# Altium schematic symbol library PCB_Eng_Model_OBDH_2.SCHLIB: 62 symbols
Pins are listed as number, name and electrical type; pins without a type are passive.

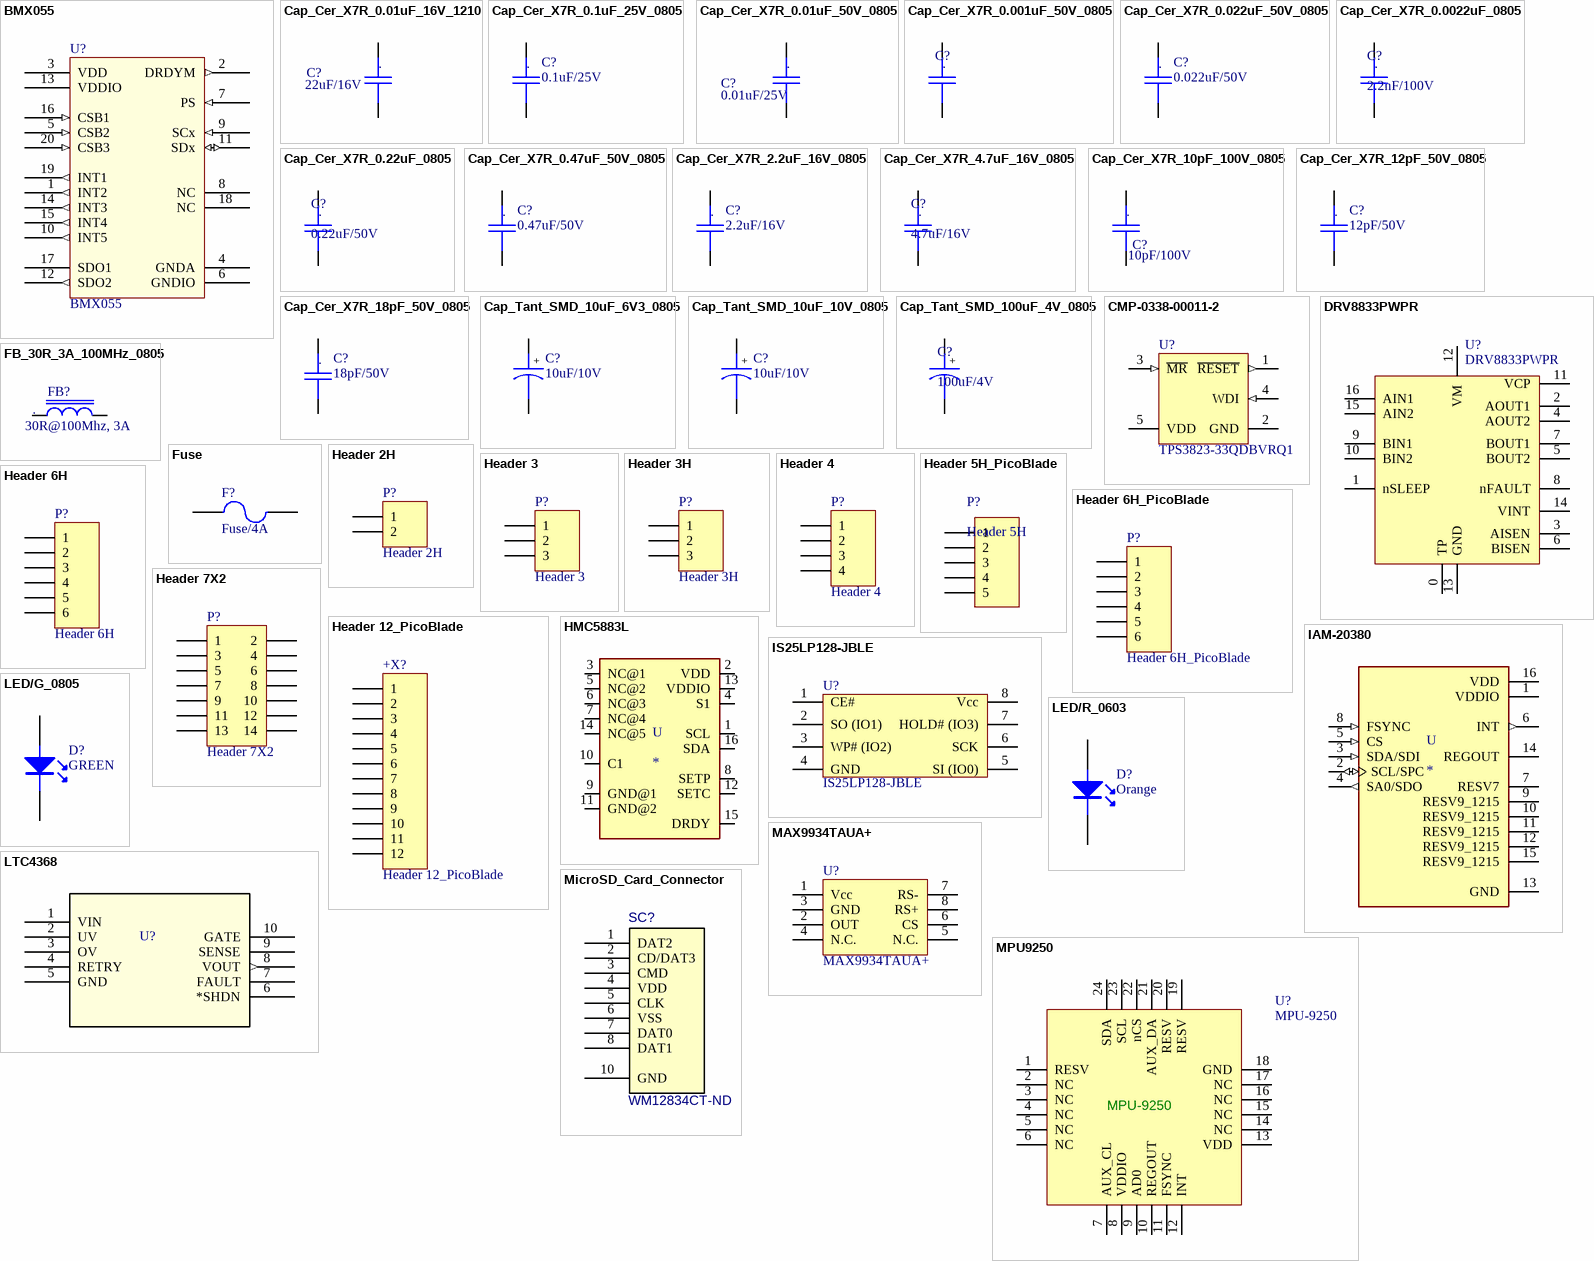
[diagram p0: symbols BMX055 to MPU9250]

## BMX055
designator U?
footprint LGA20
pins: 1 INT2 (out), 2 DRDYM (out), 3 VDD, 4 GNDA, 5 CSB2 (in), 6 GNDIO, 7 PS (in), 8 NC, 9 SCx (in) "SCK/SCL", 10 INT5 (out), 11 SDx (io) "SDA/SDI", 12 SDO2 (out) "SPI Serial data out gyro, addr select in i2c mode", 13 VDDIO, 14 INT3 (out), 15 INT4 (out), 16 CSB1 (in) "Chip Select", 17 SDO1 "Serial data out acces/mag sensor", 18 NC, 19 INT1 (out), 20 CSB3 (in) "Chip select magnet sensor"

## Cap_Cer_X7R_0.01uF_16V_1210
designator C?, comment 22uF/16V
CAP CER 22uF 16V 10% X7R 1210; Partnumber: C3225X7R1C226K250AC; NCM: 8532.24.10
footprint CC1210 (TDK mlccspec_commercial_general_midvoltage_en.pdf)
pins: 1, 2
text: .

## Cap_Cer_X7R_0.1uF_25V_0805
designator C?, comment 0.1uF/25V
CAP CER 0.1UF 25V 10% X7R 0805; Partnumber: CC0805KRX7R8BB104; NCM: 8532.24.10
footprint CC0805 (TDK mlccspec_commercial_general_midvoltage_en.pdf)
pins: 1, 2
text: .

## Cap_Cer_X7R_0.01uF_50V_0805
designator C?, comment 0.01uF/25V
CAP CER 0.01uF 25V 10% X7R 0805; Partnumber: CL21B103KAANNNC; NCM: 8532.24.10
footprint CC0805 (TDK mlccspec_commercial_general_midvoltage_en.pdf)
pins: 1, 2
text: .

## Cap_Cer_X7R_0.001uF_50V_0805
designator C?, comment 1nF/50V  (value not drawn)
0805 1 nF 50V ±10 % Tolerance X7R Surface Mount Multilayer Ceramic Capacitor; Manufacturer: Kyocera AVX; Manufacturer Part Number: 08055C102KAT2A; Capacitance: 1nF; Tolerance: 10%; Dissipation Factor: 2.5%; Insulation Resistance: 100GR; Supplier 1: Digi-Key; Supplier Part Number 1: 478-1371-1-ND; RoHS: Yes; Category: Ceramic Capacitors; Stock 1: 168088; Pricing 1: 1=0,13000, 10=0,09400, 100=0,04400, 500=0,03086, 1000=0,02555 (USD); Mount: Surface Mount,PCB; Case/Package: 0805; Number of Pins: 2; Case Code (Imperial): 0805; Case Code (Metric): 2012; Dielectric Material: Ceramic; Contact Plating: Tin,Matte; Min Operating Temperature: -55°C; Max Operating Temperature: 125°C; Voltage Rating: 50V; Voltage Rating (DC): 50V; Packaging: Tape and Reel; Dielectric: X7R; Termination: SMD/SMT; Package Quantity: 1; Voltage: 50V; Length: 2.01mm; Height: 0.94mm; Depth: 1.25mm; Width: 1.25mm; Thickness: 0.037inch; Radiation Hardening: No; REACH SVHC: No SVHC; Lead Free: Lead Free; ComponentLink1URL: https://datasheet.ciiva.com/11786/0900766b802d4698-11786944.pdf?src-supplier=RSComponents; ComponentLink1Description: https://datasheet.ciiva.com/11786/0900766b802d4698-11786944.pdf?src-supplier=RSComponents; ComponentLink2URL: https://datasheet.ciiva.com/19476/2009543-19476290.pdf?src-supplier=Jameco; ComponentLink2Description: https://datasheet.ciiva.com/19476/2009543-19476290.pdf?src-supplier=Jameco; ComponentLink3URL: https://datasheet.ciiva.com/150/cx7r-150264.pdf?src-supplier=Digi-Key; ComponentLink3Description: https://datasheet.ciiva.com/150/cx7r-150264.pdf?src-supplier=Digi-Key; ComponentLink4URL: https://datasheet.ciiva.com/150/cx7r-150265.pdf?src-supplier=Digi-Key; ComponentLink4Description: https://datasheet.ciiva.com/150/cx7r-150265.pdf?src-supplier=Digi-Key
footprint CC0805
pins: 1, 2
text: .

## Cap_Cer_X7R_0.022uF_50V_0805
designator C?, comment 0.022uF/50V
CAP CER 0.022UF 50V 5% X7R 0805; Partnumber: CGA4J2C0G1H223J125AA; NCM: 8532.24.10
footprint CC0805 (TDK mlccspec_commercial_general_midvoltage_en.pdf)
pins: 1, 2
text: .

## Cap_Cer_X7R_0.0022uF_0805
designator C?, comment 2.2nF/100V
Cap Cer 0.0022uF 100V X7R 5% 0805; Manufacturer: Kyocera AVX; Manufacturer Part Number: 08051C222JAT2A; Dielectric Material: Ceramic; Capacitance: 2.2nF; Dissipation Factor: 2.5%; Insulation Resistance: 100GR; Supplier 1: Digi-Key; Supplier Part Number 1: 478-3746-1-ND; RoHS: Yes; Category: Ceramic Capacitors; Stock 1: 21530; Pricing 1: 1=0,23000, 10=0,15400, 100=0,07790, 500=0,05328, 1000=0,04713 (USD); Mount: Surface Mount; Case/Package: 0805; Number of Pins: 2; Case Code (Metric): 2012; Case Code (Imperial): 0805; Contact Plating: Tin,Matte; Min Operating Temperature: -55°C; Max Operating Temperature: 125°C; Dielectric: X7R; Tolerance: 5%; Packaging: Tape and Reel; Voltage Rating (DC): 100V; Voltage Rating: 100V; Termination: SMD/SMT; Package Quantity: 1; Voltage: 100V; Length: 2.01mm; Height: 0.94mm; Depth: 1.25mm; Width: 0.049inch; Thickness: 0.037inch; Radiation Hardening: No; REACH SVHC: No SVHC; Lead Free: Lead Free; ComponentLink1URL: https://datasheet.ciiva.com/11536/cx7r-11536917.pdf?src-supplier=Avnet; ComponentLink1Description: https://datasheet.ciiva.com/11536/cx7r-11536917.pdf?src-supplier=Avnet; ComponentLink2URL: https://datasheet.ciiva.com/150/cx7r-150872.pdf?src-supplier=Digi-Key; ComponentLink2Description: https://datasheet.ciiva.com/150/cx7r-150872.pdf?src-supplier=Digi-Key; ComponentLink3URL: https://datasheet.ciiva.com/150/cx7r-150873.pdf?src-supplier=Digi-Key; ComponentLink3Description: https://datasheet.ciiva.com/150/cx7r-150873.pdf?src-supplier=Digi-Key; ComponentLink4URL: https://datasheet.ciiva.com/150/cx7r-150874.pdf?src-supplier=Digi-Key; ComponentLink4Description: https://datasheet.ciiva.com/150/cx7r-150874.pdf?src-supplier=Digi-Key; ComponentLink5URL: https://datasheet.ciiva.com/7811/cx7r-7811933.pdf?src-supplier=Element14; ComponentLink5Description: https://datasheet.ciiva.com/7811/cx7r-7811933.pdf?src-supplier=Element14; ComponentLink6URL: https://datasheet.ciiva.com/7811/cx7r-7811934.pdf?src-supplier=Element14; ComponentLink6Description: https://datasheet.ciiva.com/7811/cx7r-7811934.pdf?src-supplier=Element14; ComponentLink7URL: https://datasheet.ciiva.com/7811/cx7r-7811935.pdf?src-supplier=Element14; ComponentLink7Description: https://datasheet.ciiva.com/7811/cx7r-7811935.pdf?src-supplier=Element14
footprint CC0805
pins: 1, 2
text: .

## Cap_Cer_X7R_0.22uF_0805
designator C?, comment 0.22uF/50V
CAP CER 0.22UF 50V X7R 0805; Manufacturer: KEMET; Manufacturer Part Number: C0805C224K5RACTU; Dielectric Material: Ceramic; Capacitance: 220nF; Tolerance: 10%; Dissipation Factor: 2.5%; Supplier 1: Digi-Key; Supplier Part Number 1: 399-3491-1-ND; RoHS: Yes; Category: Ceramic Capacitors; Stock 1: 1491563; Pricing 1: 1=0,20000, 10=0,13900, 100=0,06550, 500=0,04592, 1000=0,03802 (USD); Mount: Surface Mount,PCB; Case/Package: 0805; Case Code (Metric): 2012; Case Code (Imperial): 0805; Min Operating Temperature: -55°C; Max Operating Temperature: 125°C; Packaging: Tape and Reel; Dielectric: X7R; Package Quantity: 1; Voltage Rating: 50V; Voltage Rating (DC): 50V; Termination: SMD/SMT; Voltage: 50V; Length: 2mm; Height: 1.1mm; Depth: 1.25mm; Width: 0.049inch; Thickness: 0.055inch; Lead Pitch: 0.75mm; Radiation Hardening: No; REACH SVHC: No SVHC; ComponentLink1URL: https://datasheet.ciiva.com/7842/kem-c1002-x7r-smd-7842582.pdf?src-supplier=Element14; ComponentLink1Description: https://datasheet.ciiva.com/7842/kem-c1002-x7r-smd-7842582.pdf?src-supplier=Element14; ComponentLink2URL: https://datasheet.ciiva.com/18193/getdatasheetpartid-304413-18193686.pdf?src-supplier=Verical; ComponentLink2Description: https://datasheet.ciiva.com/18193/getdatasheetpartid-304413-18193686.pdf?src-supplier=Verical; ComponentLink3URL: https://datasheet.ciiva.com/14589/70095383-14589519.pdf?src-supplier=Allied+Electronics; ComponentLink3Description: https://datasheet.ciiva.com/14589/70095383-14589519.pdf?src-supplier=Allied+Electronics; ComponentLink4URL: https://datasheet.ciiva.com/14603/70095383-14603247.pdf?src-supplier=Allied+Electronics; ComponentLink4Description: https://datasheet.ciiva.com/14603/70095383-14603247.pdf?src-supplier=Allied+Electronics; ComponentLink5URL: https://datasheet.ciiva.com/28682/1851736-28682316.pdf?src-supplier=Element14; ComponentLink5Description: https://datasheet.ciiva.com/28682/1851736-28682316.pdf?src-supplier=Element14
footprint CC0805
pins: 1, 2
text: .

## Cap_Cer_X7R_0.47uF_50V_0805
designator C?, comment 0.47uF/50V
CAP CER 0.47UF 50V 10% X7R 0805; Partnumber: C0805C474K5RACTU; NCM: 8532.24.10
footprint CC0805 (TDK mlccspec_commercial_general_midvoltage_en.pdf)
pins: 1, 2
text: .

## Cap_Cer_X7R_2.2uF_16V_0805
designator C?, comment 2.2uF/16V
CAP CER 2.2uF 16V 0805; Partnumber: C2012X7R1C225K125AB; NCM: 8532.24.10
footprint CC0805 (TDK mlccspec_commercial_general_midvoltage_en.pdf)
pins: 1, 2
text: .

## Cap_Cer_X7R_4.7uF_16V_0805
designator C?, comment 4.7uF/16V
Cap Ceramic 4.7uF 16V X7R 10% SMD 0805 125C Embossed T/R; Manufacturer: Kyocera AVX; Manufacturer Part Number: 0805YC475KAT2A; Voltage: 10V; Dissipation Factor: 3.5%; Supplier 1: Digi-Key; Supplier Part Number 1: 478-5722-1-ND; RoHS: Yes; Category: Ceramic Capacitors; Stock 1: 183899; Pricing 1: 1=0,51000, 10=0,36300, 100=0,23910, 500=0,17710, 1000=0,15054 (USD); Mount: Surface Mount; Case/Package: 0805; Number of Pins: 2; Case Code (Metric): 2012; Case Code (Imperial): 0805; Contact Plating: Tin,Matte; Min Operating Temperature: -55°C; Max Operating Temperature: 125°C; Capacitance: 4.7uF; Tolerance: 10%; Packaging: Tape and Reel; Voltage Rating (DC): 16V; Termination: SMD/SMT; Package Quantity: 1; Voltage Rating: 16V; Dielectric: X7R; Length: 2.01mm; Height: 1.52mm; Width: 0.049inch; Thickness: 0.06inch; Depth: 1.25mm; Radiation Hardening: No; REACH SVHC: No SVHC; Lead Free: Lead Free; ComponentLink1URL: https://datasheet.ciiva.com/11787/0900766b80dc2409-11787157.pdf?src-supplier=RSComponents; ComponentLink1Description: https://datasheet.ciiva.com/11787/0900766b80dc2409-11787157.pdf?src-supplier=RSComponents; ComponentLink2URL: https://datasheet.ciiva.com/154/cx7r-154080.pdf?src-supplier=Digi-Key; ComponentLink2Description: https://datasheet.ciiva.com/154/cx7r-154080.pdf?src-supplier=Digi-Key; ComponentLink3URL: https://datasheet.ciiva.com/154/cx7r-154081.pdf?src-supplier=Digi-Key; ComponentLink3Description: https://datasheet.ciiva.com/154/cx7r-154081.pdf?src-supplier=Digi-Key; ComponentLink4URL: https://datasheet.ciiva.com/7812/cx7r-7812213.pdf?src-supplier=Element14; ComponentLink4Description: https://datasheet.ciiva.com/7812/cx7r-7812213.pdf?src-supplier=Element14; ComponentLink5URL: https://datasheet.ciiva.com/7812/cx7r-7812214.pdf?src-supplier=Element14; ComponentLink5Description: https://datasheet.ciiva.com/7812/cx7r-7812214.pdf?src-supplier=Element14; ComponentLink6URL: https://datasheet.ciiva.com/5414/cx7r-218113-5414810.pdf?src-supplier=Mouser; ComponentLink6Description: https://datasheet.ciiva.com/5414/cx7r-218113-5414810.pdf?src-supplier=Mouser; ComponentLink7URL: https://datasheet.ciiva.com/2988/cx7r-2988060.pdf?src-supplier=Avnet; ComponentLink7Description: https://datasheet.ciiva.com/2988/cx7r-2988060.pdf?src-supplier=Avnet; ComponentLink8URL: https://datasheet.ciiva.com/16389/cx7r-16389021.pdf?src-supplier=Future+Electronics; ComponentLink8Description: https://datasheet.ciiva.com/16389/cx7r-16389021.pdf?src-supplier=Future+Electronics; ComponentLink9URL: https://datasheet.ciiva.com/154/cx7r-154079.pdf?src-supplier=Digi-Key; ComponentLink9Description: https://datasheet.ciiva.com/154/cx7r-154079.pdf?src-supplier=Digi-Key; ComponentLink10URL: https://datasheet.ciiva.com/11570/cx7r-11570847.pdf?src-supplier=Avnet; ComponentLink10Description: https://datasheet.ciiva.com/11570/cx7r-11570847.pdf?src-supplier=Avnet
footprint CC0805
pins: 1, 2
text: .

## Cap_Cer_X7R_10pF_100V_0805
designator C?, comment 10pF/100V
CAP CER 10pF 100V 0805; Partnumber: 08051A100FAT2A; NCM: 8532.24.10
footprint CC0805 (TDK mlccspec_commercial_general_midvoltage_en.pdf)
pins: 1, 2
text: .

## Cap_Cer_X7R_12pF_50V_0805
designator C?, comment 12pF/50V
CAP CER 12pF 50V 0805; Partnumber: CL21C120FBANNNC; NCM: 8532.24.10
footprint CC0805 (TDK mlccspec_commercial_general_midvoltage_en.pdf)
pins: 1, 2
text: .

## Cap_Cer_X7R_18pF_50V_0805
designator C?, comment 18pF/50V
CAP CER 18pF 50V 5% X7R 0805; Partnumber: CC0805JRNPO9BN180; NCM: 8532.24.10
footprint CC0805 (TDK mlccspec_commercial_general_midvoltage_en.pdf)
pins: 1, 2
text: .

## Cap_Tant_SMD_10uF_6V3_0805
designator C?, comment 10uF/10V
CAP Tantalum 10uF 6.3V 10% 0805; Partnumber: TPSR106K006R1000; NCM: 8532.21.11
footprint CC0805_Tantalum
pins: 1, 2
text: +

## Cap_Tant_SMD_10uF_10V_0805
designator C?, comment 10uF/10V
CAP Tantalum 10uF 10V 20% 0805; Partnumber: TPSP106M010R2000; NCM: 8532.21.11
footprint CC0805_Tantalum
pins: 1, 2
text: +

## Cap_Tant_SMD_100uF_4V_0805
designator C?, comment 100uF/4V
CAP TANT 100UF 4V 20% 0805; Manufacturer: Kyocera AVX; Manufacturer Part Number: TACR107M004RTA; Dielectric Material: Tantalum; ESR (Equivalent Series Resistance): 5R; Leakage Current: 4uA; Dissipation Factor: 30%; Polarity: Polar; Supplier 1: Digi-Key; Supplier Part Number 1: 478-4755-1-ND; RoHS: Yes; Category: Tantalum Capacitors; Stock 1: 1150; Pricing 1: 1=3,32000, 10=2,68800, 100=2,05280, 500=1,56400, 1000=1,36850 (USD); Mount: Surface Mount; Case/Package: 0805; Number of Pins: 2; Case Code (Metric): 2012; Case Code (Imperial): 0805; Min Operating Temperature: -55°C; Max Operating Temperature: 125°C; Capacitance: 100uF; Tolerance: 20%; Packaging: Tape and Reel; Voltage Rating: 4V; Features: General Purpose; Voltage Rating (DC): 4V; Package Quantity: 1; Termination: SMD/SMT; Length: 2mm; Height: 1.5mm; Width: 0.053inch; Height - Seated (Max): 0.059inch; Depth: 1.35mm; ComponentLink1URL: https://datasheet.ciiva.com/265/tac-265068.pdf?src-supplier=Digi-Key; ComponentLink1Description: https://datasheet.ciiva.com/265/tac-265068.pdf?src-supplier=Digi-Key; ComponentLink2URL: https://datasheet.ciiva.com/12890/tac-12890332.pdf?src-supplier=Mouser; ComponentLink2Description: https://datasheet.ciiva.com/12890/tac-12890332.pdf?src-supplier=Mouser; ComponentLink3URL: https://datasheet.ciiva.com/265/tac-265066.pdf?src-supplier=Digi-Key; ComponentLink3Description: https://datasheet.ciiva.com/265/tac-265066.pdf?src-supplier=Digi-Key; ComponentLink4URL: https://datasheet.ciiva.com/265/tac-265067.pdf?src-supplier=Digi-Key; ComponentLink4Description: https://datasheet.ciiva.com/265/tac-265067.pdf?src-supplier=Digi-Key; ComponentLink5URL: https://datasheet.ciiva.com/11301/tac-11301084.pdf?src-supplier=Avnet; ComponentLink5Description: https://datasheet.ciiva.com/11301/tac-11301084.pdf?src-supplier=Avnet
footprint CC0805_Tantalum
pins: 1, 2
text: +

## CMP-0338-00011-2
designator U?, comment TPS3823-33QDBVRQ1
Processor Supervisory Circuit, 1 Supply Monitored, -40 to 85 degC, 5-Pin SOT-23 (DBV), Green (RoHS & no Sb/Br); Manufacturer: Texas Instruments; Iq: 15 uA Typ.; Threshold Voltage: 2.93 V Typ.; Watchdog Timer WDI: 0.2 s; VCC: 1.1 V Min.; Reset Threshold Accuracy: 2.4%; Rating: Catalog; Time Delay: 25 ms; # of Supplies Monitored: 1; Output Driver Type / Reset Output: Active-low, Push-pull; Packing: Tape and Reel; ComponentLink1Description: Manufacturer URL; RoHS: TRUE; PackageDescription: 5-Pin Plastic Small Outline, Body 1.6 x 2.9 mm, Pitch 0.95 mm; Mounting Technology: Surface Mount; ComponentLink1URL: www.ti.com; PackageReference: DBV0005A; ComponentLink3URL: http://www.ti.com/lit/ml/mpds018j/mpds018j.pdf; ComponentLink3Description: Package Specification; PartNumber: TPS3823-33QDBVRQ1; DatasheetVersion: SLVS165J; ComponentLink2Description: Datasheet; PackageVersion: 4073253-4/L; ComponentLink2URL: http://www.ti.com/lit/ds/symlink/tps3820-33.pdf; Operating Temperature Range: -40 to 85 degC
footprint DBV0005A_L (SOT23, 5-Leads, Body 3.05x1.75mm, Pitch 0.95mm, IPC High Density)
footprint DBV0005A_M (SOT23, 5-Leads, Body 3.05x1.75mm, Pitch 0.95mm, IPC Low Density)
footprint DBV0005A_N (SOT23, 5-Leads, Body 3.05x1.75mm, Pitch 0.95mm, IPC Medium Density)
pins: 1 ~{RESET} (out), 2 GND (power), 3 ~{MR} (in), 4 WDI (in), 5 VDD (power)

## DRV8833PWPR
designator U?
Partnumber: DRV8833PWPR
footprint 16TTSSOP
pins: 0 TP, 1 nSLEEP, 2 AOUT1, 3 AISEN, 4 AOUT2, 5 BOUT2, 6 BISEN, 7 BOUT1, 8 nFAULT, 9 BIN1, 10 BIN2, 11 VCP, 12 VM, 13 GND, 14 VINT, 15 AIN2, 16 AIN1

## FB_30R_3A_100MHz_0805
designator FB?, comment 30R@100Mhz, 3A
Ferrite Bead 30 OHM 3A 100MHz; Partnumber: BLM21PG300SN1D; NCM: 8504.50.00
footprint IND0805
pins: 1, 2
text: .

## Fuse
designator F?, comment Fuse/4A
Surface Mount Fuses SMD FA 4A; PartNumber: 0437.375WR; Published: 8-Jun-2000; LatestRevisionDate: 17-Jul-2002; LatestRevisionNote: Re-released for DXP Platform.; PackageReference: PIN-W2/E2.8; Publisher: Altium Limited; PackageDescription: Thru-Hole; 2 Leads
footprint 1206
simulation model FUSE (Spice Subcircuit)
pins: 1, 2

## Header 2H
designator P?
Header, 2-Pin, Right Angle; LatestRevisionDate: 17-Jul-2002; LatestRevisionNote: Re-released for DXP Platform.; Publisher: Altium Limited
footprint HDR1X2H (Connector; Header; 2 Position; Right Angle)
signal-integrity model Connector
pins: 1, 2

## Header 3
designator P?
Header, 3-Pin; LatestRevisionDate: 17-Jul-2002; LatestRevisionNote: Re-released for DXP Platform.; Publisher: Altium Limited
footprint HDR1X3 (Connector; Header; 3 Position)
signal-integrity model Connector
pins: 1, 2, 3

## Header 3H
designator P?
Header, 3-Pin, Right Angle; Partnumber: 4-103327-5; LatestRevisionDate: 17-Jul-2002; LatestRevisionNote: Re-released for DXP Platform.; Publisher: Altium Limited
footprint HDR 1X3
signal-integrity model Connector
pins: 1, 2, 3

## Header 4
designator P?
Header, 4-Pin; LatestRevisionDate: 17-Jul-2002; LatestRevisionNote: Re-released for DXP Platform.; Publisher: Altium Limited
footprint HDR1X4 (Connector; Header; 4 Position)
signal-integrity model Connector
pins: 1, 2, 3, 4

## Header 5H_PicoBlade
designator P?, comment Header 5H
Header,5-Pin,Right Angle; Manufacturer: Molex; Manufacturer Part Number: 53398-0571; Body Plating: Tin; Number of Contacts: 5; Current Rating: 1A; Voltage Rating: 125V; Gender: Male; Contact Resistance: 20mR; Insulation Resistance: 100MR; Pitch: 1.25mm; Glow Wire Compliant: Non-compliant; Supplier 1: Digi-Key; Supplier Part Number 1: WM7609CT-ND; RoHS: Yes; Category: Headers and Wire Housings; Stock 1: 468; Pricing 1: 1=1,32000, 10=1,15900, 100=0,99990, 500=0,81814 (USD); Mount: Surface Mount; Color: Natural; Contact Material: Bronze,Tin,Brass; Contact Plating: Tin; Housing Material: Nylon; Housing Color: Natural; Min Operating Temperature: -40°C; Max Operating Temperature: 85°C; Termination: Solder; Number of Rows: 1; Packaging: Tape and Reel; Number of Positions: 5; Package Quantity: 1000; Orientation: Vertical; Contact Gender: Male; Max Voltage Rating (AC): 125V; Voltage Rating (AC): 125V; Number of Circuits: 5; Working Voltage: 125V; Voltage Rating (DC): 125V; Lead Pitch: 1.25mm; Radiation Hardening: No; REACH SVHC: Unknown; Flammability Rating: UL94 V-0; Lead Free: Lead Free; ComponentLink1URL: https://datasheet.ciiva.com/16658/0533980571-pcb-headers-16658432.pdf?src-supplier=Avnet+Europe; ComponentLink1Description: https://datasheet.ciiva.com/16658/0533980571-pcb-headers-16658432.pdf?src-supplier=Avnet+Europe; ComponentLink2URL: https://datasheet.ciiva.com/7167/1626108-7167525.pdf?src-supplier=Newark; ComponentLink2Description: https://datasheet.ciiva.com/7167/1626108-7167525.pdf?src-supplier=Newark; ComponentLink3URL: https://datasheet.ciiva.com/7683/1632115-7683910.pdf?src-supplier=Element14; ComponentLink3Description: https://datasheet.ciiva.com/7683/1632115-7683910.pdf?src-supplier=Element14; ComponentLink4URL: https://datasheet.ciiva.com/11747/0900766b8078fc92-11747178.pdf?src-supplier=RSComponents; ComponentLink4Description: https://datasheet.ciiva.com/11747/0900766b8078fc92-11747178.pdf?src-supplier=RSComponents; ComponentLink5URL: https://datasheet.ciiva.com/22699/1841163-22699962.pdf?src-supplier=Element14; ComponentLink5Description: https://datasheet.ciiva.com/22699/1841163-22699962.pdf?src-supplier=Element14; ComponentLink6URL: https://datasheet.ciiva.com/5158/0533980571-pcb-headers-146486-5158303.pdf?src-supplier=Mouser; ComponentLink6Description: https://datasheet.ciiva.com/5158/0533980571-pcb-headers-146486-5158303.pdf?src-supplier=Mouser; ComponentLink7URL: https://datasheet.ciiva.com/14156/gf116833-116846-e-14156246.pdf?src-supplier=Distrelec; ComponentLink7Description: https://datasheet.ciiva.com/14156/gf116833-116846-e-14156246.pdf?src-supplier=Distrelec; ComponentLink8URL: https://datasheet.ciiva.com/46446/1626108-46446108.pdf?src-supplier=Element14; ComponentLink8Description: https://datasheet.ciiva.com/46446/1626108-46446108.pdf?src-supplier=Element14
footprint MOLX-53398-0571-5_V (CONN, 5-Leads, Body 11x4.2mm, Pitch 1.25mm)
pins: 1, 2, 3, 4, 5

## Header 6H
designator P?
Header, 6-Pin, Right Angle; LatestRevisionDate: 17-Jul-2002; LatestRevisionNote: Re-released for DXP Platform.; Publisher: Altium Limited
footprint HDR1X6H (Connector; Header; 6 Position; Right Angle)
signal-integrity model Connector
pins: 1, 2, 3, 4, 5, 6

## Header 6H_PicoBlade
designator P?
Header, 6-Pin, Right Angle; Partnumber: 53398-0671; LatestRevisionDate: 17-Jul-2002; LatestRevisionNote: Re-released for DXP Platform.; Publisher: Altium Limited
footprint HDR6 PicoBlade
signal-integrity model Connector
pins: 1, 2, 3, 4, 5, 6

## Header 7X2
designator P?
Header, 7-Pin, Dual row; LatestRevisionDate: 17-Jul-2002; LatestRevisionNote: Re-released for DXP Platform.; Publisher: Altium Limited
footprint HDR2X7 (Connector; Header; 7x2 Position)
signal-integrity model Connector
pins: 1, 2, 3, 4, 5, 6, 7, 8, 9, 10, 11, 12, 13, 14

## Header 12_PicoBlade
designator +X?
Header, 12-Pin; PartNumber: 53398-1271; LatestRevisionDate: 17-Jul-2002; LatestRevisionNote: Re-released for DXP Platform.; Publisher: Altium Limited
footprint HDR12 PicoBlade - duplicate
signal-integrity model Connector
pins: 1, 2, 3, 4, 5, 6, 7, 8, 9, 10, 11, 12

## HMC5883L
designator U
Magnetoresistive Sensor X, Y, Z Axis 16-LCC; MF: Honeywell; MP: HMC5883L-T; Price: None; Package: LCC-16 Honeywell; SnapEDA_Link: https://www.snapeda.com/parts/HMC5883L-T/Honeywell/view-part/4349541/?ref=snap; Value: *; Availability: Unavailable
footprint LPCC-16
pins: 1 SCL (io), 2 VDD (io), 3 NC@1 (io), 4 S1 (io), 5 NC@2 (io), 6 NC@3 (io), 7 NC@4 (io), 8 SETP (io), 9 GND@1 (io), 10 C1 (io), 11 GND@2 (io), 12 SETC (io), 13 VDDIO (io), 14 NC@5 (io), 15 DRDY (io), 16 SDA (io)

## IAM-20380
designator U
Gyroscope X _Pitch_, Y _Roll_, Z _Yaw_ Â±250, 500, 1000, 2000 27kHz IÂ²C, SPI 16-LGA _3x3_; MF: TDK InvenSense; MP: IAM-20380; Value: *; SnapEDA_Link: https://www.snapeda.com/parts/IAM-20380/TDK%20InvenSense/view-part/2757130/?ref=snap; Package: PQFN-16 TDK-InvenSense; Price: None; Availability: Unavailable
footprint QFP50P900X900X160-48N
pins: 1 VDDIO (power), 2 SCL/SPC (io), 3 SDA/SDI (in), 4 SA0/SDO (out), 5 CS (in), 6 INT (out), 7 RESV7, 8 FSYNC (in), 9 RESV9_1215, 10 RESV9_1215, 11 RESV9_1215, 12 RESV9_1215, 13 GND (power), 14 REGOUT, 15 RESV9_1215, 16 VDD (power)

## IS25LP128-JBLE
designator U?
IC FLASH 128MBIT 133MHZ 8SOIC; Partnumber: IS25LP128-JBLE
footprint SOIC8
pins: 1 CE#, 2 SO (IO1), 3 WP# (IO2), 4 GND, 5 SI (IO0), 6 SCK, 7 HOLD# (IO3), 8 Vcc

## LED/G_0805
designator D?, comment GREEN
SMD Green LED; Partnumber: LTST-C171GKT; NCM: 8541.40.21
footprint 0805-LED
pins: 1 A, 2 K

## LED/R_0603
designator D?, comment Orange
SMD Orange LED; Partnumber: LTST-C170KFKT; NCM: 8541.40.21
footprint 0805-LED
pins: 1 A, 2 K

## LTC4368
designator U?  (value not drawn)
LTC4368 - 100V UV/OV and Reverse Protection Controller with Bidirectional Circuit Breaker; Manufacturer: Analog Devices; Manufacturer Part Number: LTC4368IMS-2#PBF; Supplier 1: Digi-Key; Supplier Part Number 1: LTC4368IMS-2#PBF-ND; Stock 1: 2024; Pricing 1: 1=5,46000, 25=3,13000, 100=2,80800 (USD); Number of Pins: 10; ComponentLink1URL: http://www.linear.com/docs/57622?src-supplier=Digi-Key; ComponentLink1Description: http://www.linear.com/docs/57622?src-supplier=Digi-Key; ComponentLink2URL: http://datasheet.octopart.com/LTC4368IMS-2%23PBF-Linear-Technology-datasheet-78375103.pdf?src-supplier=Newark; ComponentLink2Description: http://datasheet.octopart.com/LTC4368IMS-2%23PBF-Linear-Technology-datasheet-78375103.pdf?src-supplier=Newark; ComponentLink3URL: http://sigma.octopart.com/57693147/technical_drawing/Linear-Technology-LTC4368IMS-2%23PBF.pdf?src-supplier=Linear+Technology; ComponentLink3Description: http://sigma.octopart.com/57693147/technical_drawing/Linear-Technology-LTC4368IMS-2%23PBF.pdf?src-supplier=Linear+Technology
footprint MSOP-10_MS
pins: 1 VIN, 2 UV, 3 OV, 4 RETRY, 5 GND, 6 *SHDN, 7 FAULT, 8 VOUT (out), 9 SENSE, 10 GATE

## MAX9934TAUA+
designator U?
Partnumber: MAX9934TAUA+
footprint MSOP-8 (8-Lead Mini Small Outline Package [MSOP] (RM-8))
pins: 1 Vcc, 2 OUT, 3 GND, 4 N.C., 5 N.C., 6 CS, 7 RS-, 8 RS+

## MicroSD_Card_Connector
designator SC?, comment WM12834CT-ND
MicroSD CARD Connector; Partnumber: WM12834CT-ND; NCM: 8536.90.40
footprint uSD_Card
pins: 1 DAT2, 2 CD/DAT3, 3 CMD, 4 VDD, 5 CLK, 6 VSS, 7 DAT0, 8 DAT1, 10 GND

## MPU9250
designator U?, comment MPU-9250
SMD Gyroscope/Accelerometer/Magnetometer Sensor; 9-AXIS; Partnumber: MPU-9250
footprint QFN24P300X300X105-25N
pins: 1 RESV, 2 NC, 3 NC, 4 NC, 5 NC, 6 NC, 7 AUX_CL, 8 VDDIO, 9 AD0, 10 REGOUT, 11 FSYNC, 12 INT, 13 VDD, 14 NC, 15 NC, 16 NC, 17 NC, 18 GND, 19 RESV, 20 RESV, 21 AUX_DA, 22 nCS, 23 SCL, 24 SDA

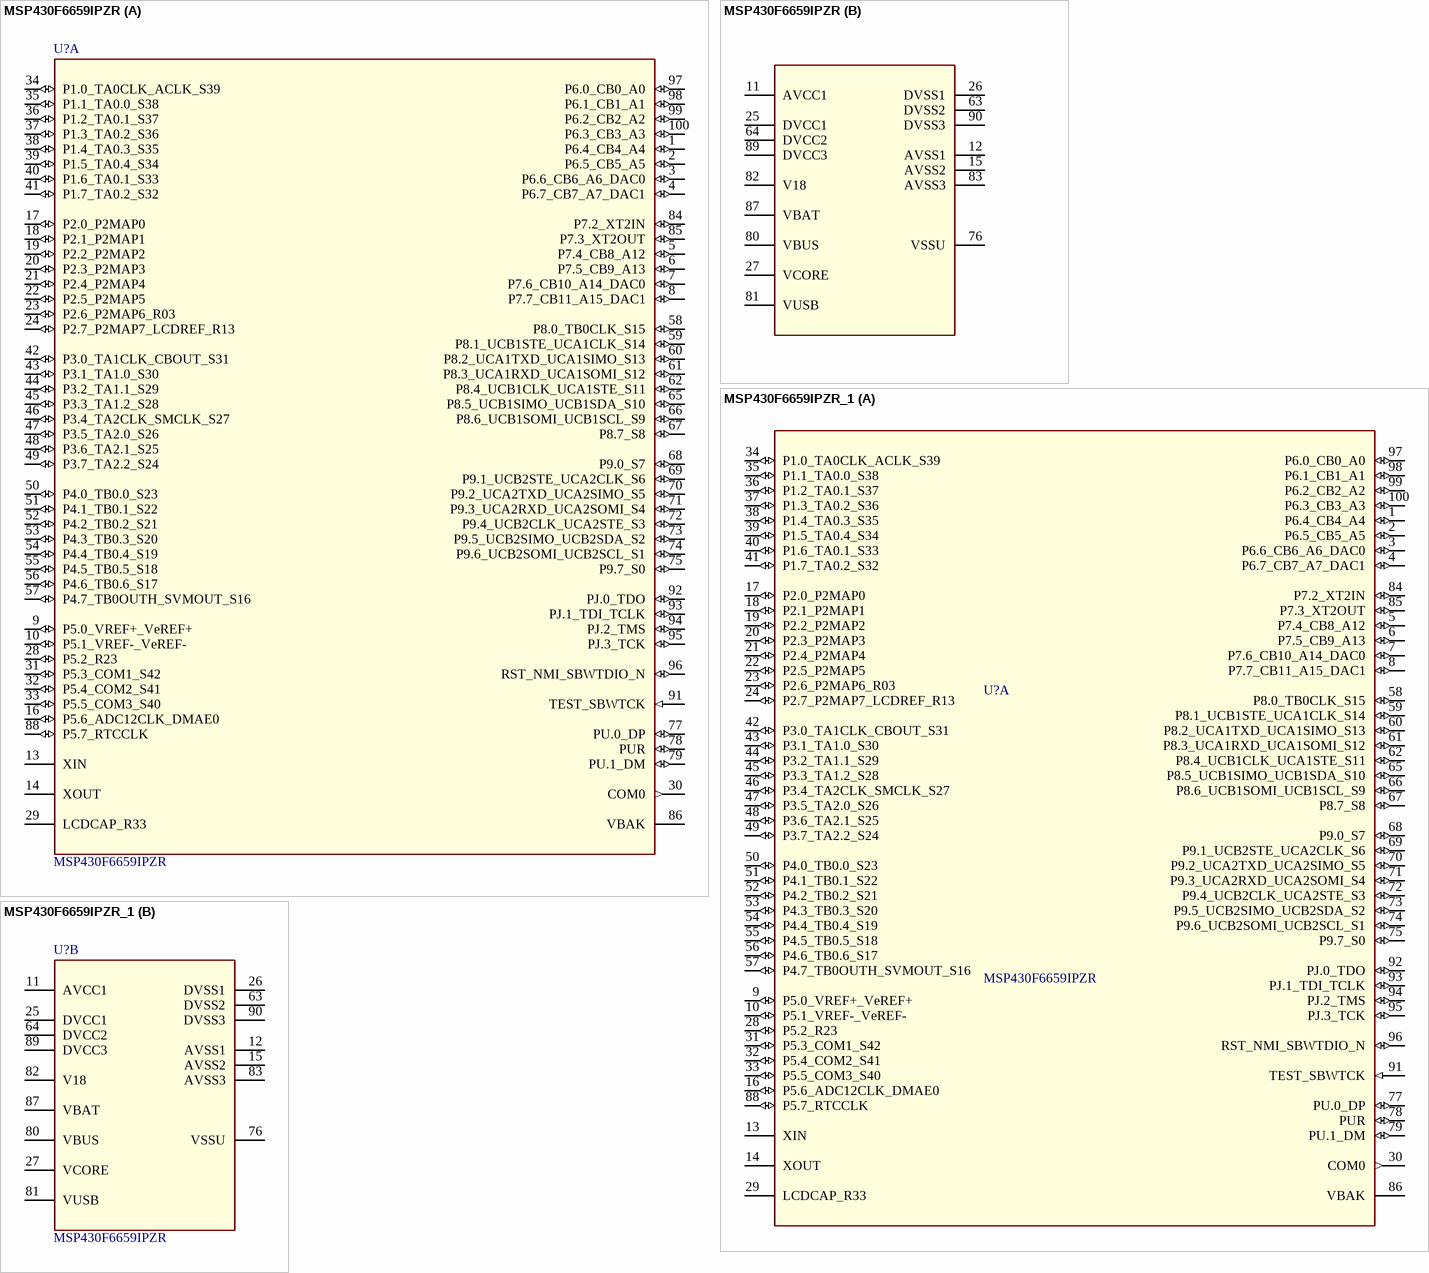
[diagram p1: symbols MSP430F6659IPZR to MSP430F6659IPZR_1]

## MSP430F6659IPZR
designator U?
Imported; Manufacturer: Texas Instruments; CompType: IC; PIN_COUNT: 100; Application_BuildNumber: *; PartNumber: MSP430F6659IPZR; Alternate PartNumber: MSP430F6659IPZ; PackageReference: PZ0100A; MountType: SMT; RoHS: Y; RefDes: RefDes; Type: DEV; Value: Value
footprint PZ0100A_N
part A pins: 1 P6.4_CB4_A4 (io), 2 P6.5_CB5_A5 (io), 3 P6.6_CB6_A6_DAC0 (io), 4 P6.7_CB7_A7_DAC1 (io), 5 P7.4_CB8_A12 (io), 6 P7.5_CB9_A13 (io), 7 P7.6_CB10_A14_DAC0 (io), 8 P7.7_CB11_A15_DAC1 (io), 9 P5.0_VREF+_VeREF+ (io), 10 P5.1_VREF-_VeREF- (io), 13 XIN, 14 XOUT, 16 P5.6_ADC12CLK_DMAE0 (io), 17 P2.0_P2MAP0 (io), 18 P2.1_P2MAP1 (io), 19 P2.2_P2MAP2 (io), 20 P2.3_P2MAP3 (io), 21 P2.4_P2MAP4 (io), 22 P2.5_P2MAP5 (io), 23 P2.6_P2MAP6_R03 (io), 24 P2.7_P2MAP7_LCDREF_R13 (io), 28 P5.2_R23 (io), 29 LCDCAP_R33, 30 COM0 (out), 31 P5.3_COM1_S42 (io), 32 P5.4_COM2_S41 (io), 33 P5.5_COM3_S40 (io), 34 P1.0_TA0CLK_ACLK_S39 (io), 35 P1.1_TA0.0_S38 (io), 36 P1.2_TA0.1_S37 (io), 37 P1.3_TA0.2_S36 (io), 38 P1.4_TA0.3_S35 (io), 39 P1.5_TA0.4_S34 (io), 40 P1.6_TA0.1_S33 (io), 41 P1.7_TA0.2_S32 (io), 42 P3.0_TA1CLK_CBOUT_S31 (io), 43 P3.1_TA1.0_S30 (io), 44 P3.2_TA1.1_S29 (io), 45 P3.3_TA1.2_S28 (io), 46 P3.4_TA2CLK_SMCLK_S27 (io), 47 P3.5_TA2.0_S26 (io), 48 P3.6_TA2.1_S25 (io), 49 P3.7_TA2.2_S24 (io), 50 P4.0_TB0.0_S23 (io), 51 P4.1_TB0.1_S22 (io), 52 P4.2_TB0.2_S21 (io), 53 P4.3_TB0.3_S20 (io), 54 P4.4_TB0.4_S19 (io), 55 P4.5_TB0.5_S18 (io), 56 P4.6_TB0.6_S17 (io), 57 P4.7_TB0OUTH_SVMOUT_S16 (io), 58 P8.0_TB0CLK_S15 (io), 59 P8.1_UCB1STE_UCA1CLK_S14 (io), 60 P8.2_UCA1TXD_UCA1SIMO_S13 (io), 61 P8.3_UCA1RXD_UCA1SOMI_S12 (io), 62 P8.4_UCB1CLK_UCA1STE_S11 (io), 65 P8.5_UCB1SIMO_UCB1SDA_S10 (io), 66 P8.6_UCB1SOMI_UCB1SCL_S9 (io), 67 P8.7_S8 (io), 68 P9.0_S7 (io), 69 P9.1_UCB2STE_UCA2CLK_S6 (io), 70 P9.2_UCA2TXD_UCA2SIMO_S5 (io), 71 P9.3_UCA2RXD_UCA2SOMI_S4 (io), 72 P9.4_UCB2CLK_UCA2STE_S3 (io), 73 P9.5_UCB2SIMO_UCB2SDA_S2 (io), 74 P9.6_UCB2SOMI_UCB2SCL_S1 (io), 75 P9.7_S0 (io), 77 PU.0_DP (io), 78 PUR (io), 79 PU.1_DM (io), 84 P7.2_XT2IN (io), 85 P7.3_XT2OUT (io), 86 VBAK, 88 P5.7_RTCCLK (io), 91 TEST_SBWTCK (in), 92 PJ.0_TDO (io), 93 PJ.1_TDI_TCLK (io), 94 PJ.2_TMS (io), 95 PJ.3_TCK (io), 96 RST_NMI_SBWTDIO_N (io), 97 P6.0_CB0_A0 (io), 98 P6.1_CB1_A1 (io), 99 P6.2_CB2_A2 (io), 100 P6.3_CB3_A3 (io)
part B pins: 11 AVCC1 (power), 12 AVSS1 (power), 15 AVSS2 (power), 25 DVCC1 (power), 26 DVSS1 (power), 27 VCORE (power), 63 DVSS2 (power), 64 DVCC2 (power), 76 VSSU (power), 80 VBUS (power), 81 VUSB (power), 82 V18 (power), 83 AVSS3 (power), 87 VBAT (power), 89 DVCC3 (power), 90 DVSS3 (power)

## MSP430F6659IPZR_1
designator U?, comment MSP430F6659IPZR
Imported; Manufacturer: Texas Instruments; CompType: IC; PIN_COUNT: 100; Application_BuildNumber: *; PartNumber: MSP430F6659IPZR; Alternate PartNumber: MSP430F6659IPZ; PackageReference: PZ0100A; MountType: SMT; RoHS: Y; RefDes: RefDes; Type: DEV; Value: Value
footprint PZ0100A_N (Footprint not found)
part A pins: 1 P6.4_CB4_A4 (io), 2 P6.5_CB5_A5 (io), 3 P6.6_CB6_A6_DAC0 (io), 4 P6.7_CB7_A7_DAC1 (io), 5 P7.4_CB8_A12 (io), 6 P7.5_CB9_A13 (io), 7 P7.6_CB10_A14_DAC0 (io), 8 P7.7_CB11_A15_DAC1 (io), 9 P5.0_VREF+_VeREF+ (io), 10 P5.1_VREF-_VeREF- (io), 13 XIN, 14 XOUT, 16 P5.6_ADC12CLK_DMAE0 (io), 17 P2.0_P2MAP0 (io), 18 P2.1_P2MAP1 (io), 19 P2.2_P2MAP2 (io), 20 P2.3_P2MAP3 (io), 21 P2.4_P2MAP4 (io), 22 P2.5_P2MAP5 (io), 23 P2.6_P2MAP6_R03 (io), 24 P2.7_P2MAP7_LCDREF_R13 (io), 28 P5.2_R23 (io), 29 LCDCAP_R33, 30 COM0 (out), 31 P5.3_COM1_S42 (io), 32 P5.4_COM2_S41 (io), 33 P5.5_COM3_S40 (io), 34 P1.0_TA0CLK_ACLK_S39 (io), 35 P1.1_TA0.0_S38 (io), 36 P1.2_TA0.1_S37 (io), 37 P1.3_TA0.2_S36 (io), 38 P1.4_TA0.3_S35 (io), 39 P1.5_TA0.4_S34 (io), 40 P1.6_TA0.1_S33 (io), 41 P1.7_TA0.2_S32 (io), 42 P3.0_TA1CLK_CBOUT_S31 (io), 43 P3.1_TA1.0_S30 (io), 44 P3.2_TA1.1_S29 (io), 45 P3.3_TA1.2_S28 (io), 46 P3.4_TA2CLK_SMCLK_S27 (io), 47 P3.5_TA2.0_S26 (io), 48 P3.6_TA2.1_S25 (io), 49 P3.7_TA2.2_S24 (io), 50 P4.0_TB0.0_S23 (io), 51 P4.1_TB0.1_S22 (io), 52 P4.2_TB0.2_S21 (io), 53 P4.3_TB0.3_S20 (io), 54 P4.4_TB0.4_S19 (io), 55 P4.5_TB0.5_S18 (io), 56 P4.6_TB0.6_S17 (io), 57 P4.7_TB0OUTH_SVMOUT_S16 (io), 58 P8.0_TB0CLK_S15 (io), 59 P8.1_UCB1STE_UCA1CLK_S14 (io), 60 P8.2_UCA1TXD_UCA1SIMO_S13 (io), 61 P8.3_UCA1RXD_UCA1SOMI_S12 (io), 62 P8.4_UCB1CLK_UCA1STE_S11 (io), 65 P8.5_UCB1SIMO_UCB1SDA_S10 (io), 66 P8.6_UCB1SOMI_UCB1SCL_S9 (io), 67 P8.7_S8 (io), 68 P9.0_S7 (io), 69 P9.1_UCB2STE_UCA2CLK_S6 (io), 70 P9.2_UCA2TXD_UCA2SIMO_S5 (io), 71 P9.3_UCA2RXD_UCA2SOMI_S4 (io), 72 P9.4_UCB2CLK_UCA2STE_S3 (io), 73 P9.5_UCB2SIMO_UCB2SDA_S2 (io), 74 P9.6_UCB2SOMI_UCB2SCL_S1 (io), 75 P9.7_S0 (io), 77 PU.0_DP (io), 78 PUR (io), 79 PU.1_DM (io), 84 P7.2_XT2IN (io), 85 P7.3_XT2OUT (io), 86 VBAK, 88 P5.7_RTCCLK (io), 91 TEST_SBWTCK (in), 92 PJ.0_TDO (io), 93 PJ.1_TDI_TCLK (io), 94 PJ.2_TMS (io), 95 PJ.3_TCK (io), 96 RST_NMI_SBWTDIO_N (io), 97 P6.0_CB0_A0 (io), 98 P6.1_CB1_A1 (io), 99 P6.2_CB2_A2 (io), 100 P6.3_CB3_A3 (io)
part B pins: 11 AVCC1 (power), 12 AVSS1 (power), 15 AVSS2 (power), 25 DVCC1 (power), 26 DVSS1, 27 VCORE (power), 63 DVSS2 (power), 64 DVCC2 (power), 76 VSSU (power), 80 VBUS (power), 81 VUSB (power), 82 V18 (power), 83 AVSS3 (power), 87 VBAT (power), 89 DVCC3 (power), 90 DVSS3

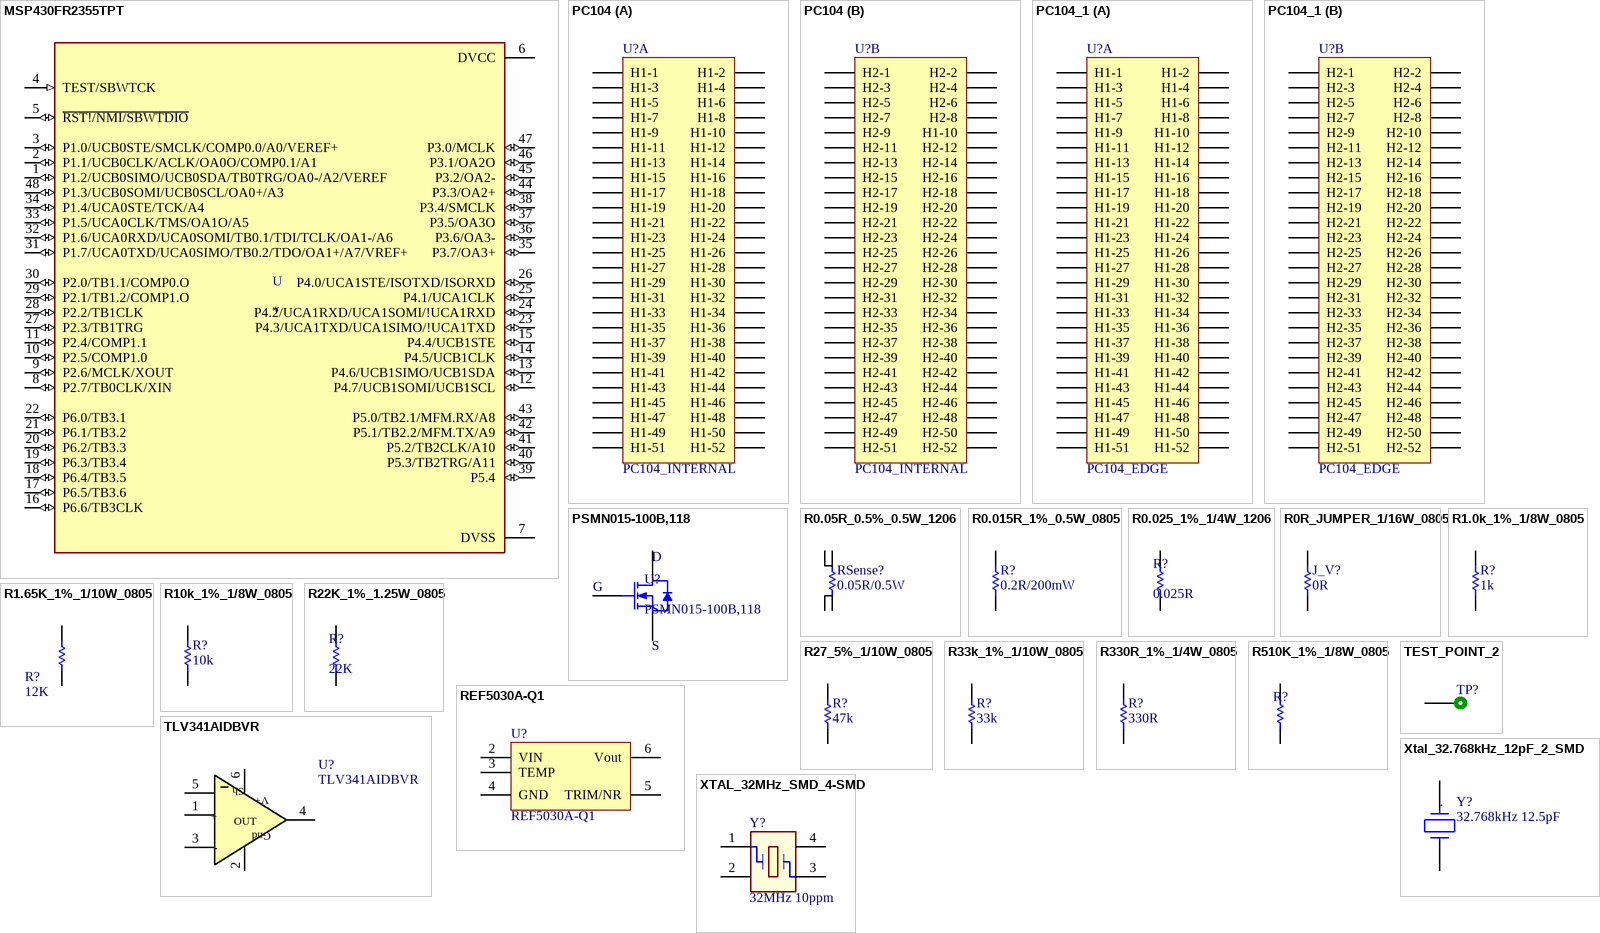
[diagram p2: symbols MSP430FR2355TPT to XTAL_32MHz_SMD_4-SMD]

## MSP430FR2355TPT
designator U
CPU16 MSP430â„¢ FRAM Microcontroller IC 16-Bit 24MHz 32KB _32K x 8_ FRAM 48-LQFP _7x7_; MP: MSP430FR2355TPT; MF: Texas Instruments; Price: None; Availability: Unavailable; Package: LQFP-48 Texas Instruments; SnapEDA_Link: https://www.snapeda.com/parts/MSP430FR2355TPT/Texas%20Instruments/view-part/2780516/?ref=snap; Value: *
footprint QFP50P900X900X160-48N - duplicate
pins: 1 P1.2/UCB0SIMO/UCB0SDA/TB0TRG/OA0-/A2/VEREF (io), 2 P1.1/UCB0CLK/ACLK/OA0O/COMP0.1/A1 (io), 3 P1.0/UCB0STE/SMCLK/COMP0.0/A0/VEREF+ (io), 4 TEST/SBWTCK (in), 5 ~{RST!/NMI/SBWTDIO} (io), 6 DVCC (power), 7 DVSS (power), 8 P2.7/TB0CLK/XIN (io), 9 P2.6/MCLK/XOUT (io), 10 P2.5/COMP1.0 (io), 11 P2.4/COMP1.1 (io), 12 P4.7/UCB1SOMI/UCB1SCL (io), 13 P4.6/UCB1SIMO/UCB1SDA (io), 14 P4.5/UCB1CLK (io), 15 P4.4/UCB1STE (io), 16 P6.6/TB3CLK (io), 17 P6.5/TB3.6 (io), 18 P6.4/TB3.5 (io), 19 P6.3/TB3.4 (io), 20 P6.2/TB3.3 (io), 21 P6.1/TB3.2 (io), 22 P6.0/TB3.1 (io), 23 P4.3/UCA1TXD/UCA1SIMO/!UCA1TXD (io), 24 P4.2/UCA1RXD/UCA1SOMI/!UCA1RXD (io), 25 P4.1/UCA1CLK (io), 26 P4.0/UCA1STE/ISOTXD/ISORXD (io), 27 P2.3/TB1TRG (io), 28 P2.2/TB1CLK (io), 29 P2.1/TB1.2/COMP1.O (io), 30 P2.0/TB1.1/COMP0.O (io), 31 P1.7/UCA0TXD/UCA0SIMO/TB0.2/TDO/OA1+/A7/VREF+ (io), 32 P1.6/UCA0RXD/UCA0SOMI/TB0.1/TDI/TCLK/OA1-/A6 (io), 33 P1.5/UCA0CLK/TMS/OA1O/A5 (io), 34 P1.4/UCA0STE/TCK/A4 (io), 35 P3.7/OA3+ (io), 36 P3.6/OA3- (io), 37 P3.5/OA3O (io), 38 P3.4/SMCLK (io), 39 P5.4 (io), 40 P5.3/TB2TRG/A11 (io), 41 P5.2/TB2CLK/A10 (io), 42 P5.1/TB2.2/MFM.TX/A9 (io), 43 P5.0/TB2.1/MFM.RX/A8 (io), 44 P3.3/OA2+ (io), 45 P3.2/OA2- (io), 46 P3.1/OA2O (io), 47 P3.0/MCLK (io), 48 P1.3/UCB0SOMI/UCB0SCL/OA0+/A3 (io)

## PC104
designator U?, comment PC104_INTERNAL
PC104; Partnumber: ESQ-126-39-G-D
footprint PC104 (Connector; Header; 26x4 Position)
part A pins: H1-1, H1-2, H1-3, H1-4, H1-5, H1-6, H1-7, H1-8, H1-9, H1-10, H1-11, H1-12, H1-13, H1-14, H1-15, H1-16, H1-17, H1-18, H1-19, H1-20, H1-21, H1-22, H1-23, H1-24, H1-25, H1-26, H1-27, H1-28, H1-29, H1-30, H1-31, H1-32, H1-33, H1-34, H1-35, H1-36, H1-37, H1-38, H1-39, H1-40, H1-41, H1-42, H1-43, H1-44, H1-45, H1-46, H1-47, H1-48, H1-49, H1-50, H1-51, H1-52
part B pins: H1-10, H1-32 H2-32, H1-52 H2-52, H2-1, H2-2, H2-3, H2-4, H2-5, H2-6, H2-7, H2-8, H2-9, H2-11, H2-12, H2-13, H2-14, H2-15, H2-16, H2-17, H2-18, H2-19, H2-20, H2-21, H2-22, H2-23, H2-24, H2-25, H2-26, H2-27, H2-28, H2-29, H2-30, H2-31, H2-33, H2-34, H2-35, H2-36, H2-37, H2-38, H2-39, H2-40, H2-41, H2-42, H2-43, H2-44, H2-45, H2-46, H2-47, H2-48, H2-49, H2-50, H2-51

## PC104_1
designator U?, comment PC104_EDGE
PC104; Partnumber: ESQ-126-39-G-D
footprint PC104 (Connector; Header; 26x4 Position)
part A pins: H1-1, H1-2, H1-3, H1-4, H1-5, H1-6, H1-7, H1-8, H1-9, H1-10, H1-11, H1-12, H1-13, H1-14, H1-15, H1-16, H1-17, H1-18, H1-19, H1-20, H1-21, H1-22, H1-23, H1-24, H1-25, H1-26, H1-27, H1-28, H1-29, H1-30, H1-31, H1-32, H1-33, H1-34, H1-35, H1-36, H1-37, H1-38, H1-39, H1-40, H1-41, H1-42, H1-43, H1-44, H1-45, H1-46, H1-47, H1-48, H1-49, H1-50, H1-51, H1-52
part B pins: H2-1, H2-2, H2-3, H2-4, H2-5, H2-6, H2-7, H2-8, H2-9, H2-10, H2-11, H2-12, H2-13, H2-14, H2-15, H2-16, H2-17, H2-18, H2-19, H2-20, H2-21, H2-22, H2-23, H2-24, H2-25, H2-26, H2-27, H2-28, H2-29, H2-30, H2-31, H2-32, H2-33, H2-34, H2-35, H2-36, H2-37, H2-38, H2-39, H2-40, H2-41, H2-42, H2-43, H2-44, H2-45, H2-46, H2-47, H2-48, H2-49, H2-50, H2-51, H2-52

## PSMN015-100B,118
designator U?
Trans MOSFET N-CH 100V 75A 3-Pin(2+Tab) D2PAK T/R; Manufacturer: NXP Semiconductors; Power Dissipation: 300W; Rds On Max: 15mR; Input Capacitance: 4.9nF; Turn-Off Delay Time: 95ns; Gate to Source Voltage (Vgs): 20V; Fall Time: 50ns; Turn-On Delay Time: 25ns; Rise Time: 65ns; Element Configuration: Single; Number of Elements: 1; Supplier 1: Digi-Key; Supplier Part Number 1: 1727-4771-1-ND; Manufacturer Part Number: PSMN015-100B,118; RoHS: Yes; Category: MOSFETs; Stock 1: 5498; Pricing 1: 1=1,97000, 10=1,77100, 25=1,67120, 100=1,30340, 250=1,26996 (USD); Case/Package: SOT; Number of Pins: 3; Min Operating Temperature: -55°C; Max Operating Temperature: 175°C; Continuous Drain Current (ID): 75A; Max Power Dissipation: 300W; Packaging: Tape and Reel; Package Quantity: 1; Drain to Source Breakdown Voltage: 100V; Drain to Source Resistance: 15mR; Drain to Source Voltage (Vdss): 100V; Max Dual Supply Voltage: 100V; Radiation Hardening: No; Lead Free: Lead Free; ComponentLink1URL: https://datasheet.ciiva.com/936/psmn015-100b-936564.pdf?src-supplier=Digi-Key; ComponentLink1Description: https://datasheet.ciiva.com/936/psmn015-100b-936564.pdf?src-supplier=Digi-Key; ComponentLink2URL: https://datasheet.ciiva.com/4442/psmn015-100b-103562-4442099.pdf?src-supplier=Mouser; ComponentLink2Description: https://datasheet.ciiva.com/4442/psmn015-100b-103562-4442099.pdf?src-supplier=Mouser; ComponentLink3URL: https://datasheet.ciiva.com/26790/psmn015-100b-118-26790576.pdf?src-supplier=IIIC; ComponentLink3Description: https://datasheet.ciiva.com/26790/psmn015-100b-118-26790576.pdf?src-supplier=IIIC; ComponentLink4URL: https://datasheet.ciiva.com/11168/psmn015-100b-11168601.pdf?src-supplier=Avnet; ComponentLink4Description: https://datasheet.ciiva.com/11168/psmn015-100b-11168601.pdf?src-supplier=Avnet; ComponentLink5URL: https://datasheet.ciiva.com/936/psmn015-100b-936566.pdf?src-supplier=Digi-Key; ComponentLink5Description: https://datasheet.ciiva.com/936/psmn015-100b-936566.pdf?src-supplier=Digi-Key; Partnumber: PSMN015-100B,118
footprint NXP-SOT404_L (DPAK, 3-Leads, Body 10.3x9.8mm, Pitch 2.54mm, IPC High Density)
pins: 1 G "gate", 3 S "source", 4 D "mounting base; connected to drain"

## R0.05R_0.5%_0.5W_1206
designator RSense?, comment 0.05R/0.5W
Current Sense Resistors - SMD 0.05ohm .5% 4 Terminal; Partnumber: LVK12R050DER; NCM: 8533.21.20
footprint 1206 - ohmite
pins: 1, 2, 3, 4

## R0.015R_1%_0.5W_0805
designator R?, comment 0.2R/200mW
RES 0.2 OHM - 0.2W 1% 0805; Partnumber: RL1220S-R20-F; NCM: 8533.21.20
footprint 0805
pins: 1, 2

## R0.025_1%_1/4W_1206
designator R?, comment 0.025R
RES 0.025 OHM - 0.25W 1% 1206; Manufacturer: Vishay Dale; Manufacturer Part Number: WSL1206R0250FBA; Resistance: 25mR; Power Rating: 250mW; Temperature Coefficient: 75ppm/°C; Supplier 1: Avnet; Supplier Part Number 1: WSL1206R0250FBA; RoHS: Yes; Category: Chip SMD Resistors; Pricing 1: 100=0,46579, 200=0,42600, 400=0,30800, 600=0,29920, 800=0,29260 (USD); Case/Package: 1206; Contact Plating: Tin,Lead; Case Code (Imperial): 1206; Case Code (Metric): 3216; Min Operating Temperature: -65°C; Max Operating Temperature: 170°C; Packaging: Bulk; Tolerance: 1%; Composition: Metal Strip; Termination: SMD/SMT; Package Quantity: 100; Length: 3.2mm; Height: 0.635mm; Width: 1.6mm; Radiation Hardening: No; Lead Free: Lead Free; ComponentLink1URL: https://datasheet.ciiva.com/9024/wsl-9024860.pdf?src-supplier=Avnet; ComponentLink1Description: https://datasheet.ciiva.com/9024/wsl-9024860.pdf?src-supplier=Avnet
footprint 1206
pins: 1, 2

## R0R_JUMPER_1/16W_0805
designator J_V?, comment 0R
RES 0R OHM 1/16W JUMPER 0805; Partnumber: CRCW08050000Z0EA; NCM: 8533.21.20
footprint 0805
pins: 1, 2

## R1.0k_1%_1/8W_0805
designator R?, comment 1k
RES 1.0K OHM 1/8W 1% 0805; Partnumber: RC0805FR-071KL; NCM: 8533.21.20
footprint 0805
pins: 1, 2

## R1.65K_1%_1/10W_0805
designator R?, comment 12K
RES 1.65K OHM 1/10W 0.1% 0805; Partnumber: PCF0805R-1K65BT1; NCM: 8533.21.20
footprint 0805
pins: 1, 2

## R10k_1%_1/8W_0805
designator R?, comment 10k
RES 10K OHM 1/8W 1%  0805; Partnumber: CRCW080510K0FKEA; NCM: 8533.21.20
footprint 0805
pins: 1, 2

## R22K_1%_1.25W_0805
designator R?, comment 22K
RES 22K OHM 1.25W 1% 0805; Manufacturer: Vishay; Manufacturer Part Number: CRCW080522K0FKEA; Resistance: 22kR; Power Rating: 125mW; Voltage Rating: 150V; Temperature Coefficient: 100ppm/°C; Supplier 1: Digi-Key; Supplier Part Number 1: 541-22.0KCCT-ND; RoHS: Yes; Category: Chip SMD Resistors; Stock 1: 4249; Pricing 1: 1=0,10000, 10=0,06200, 100=0,02540, 1000=0,01142, 2500=0,00991 (USD); Mount: Surface Mount; Case/Package: 0805; Weight: 0.000194oz; Case Code (Metric): 2012; Case Code (Imperial): 0805; Contact Plating: Tin; Min Operating Temperature: -55°C; Max Operating Temperature: 155°C; Tolerance: 1%; Packaging: Tape and Reel; Composition: Thick Film; Number of Terminations: 2; Termination: SMD/SMT; Military Standard: Not; Package Quantity: 10; Max Power Dissipation: 125mW; Voltage Rating (DC): 150V; Features: Automotive AEC-Q200; Length: 2mm; Height: 0.45mm; Depth: 1.25mm; Width: 0.049inch; Radiation Hardening: No; REACH SVHC: Unknown; Lead Free: Lead Free; ComponentLink1URL: https://datasheet.ciiva.com/7673/1720486-7673152.pdf?src-supplier=Element14; ComponentLink1Description: https://datasheet.ciiva.com/7673/1720486-7673152.pdf?src-supplier=Element14; ComponentLink2URL: https://datasheet.ciiva.com/11808/0900766b80d98b26-11808659.pdf?src-supplier=RSComponents; ComponentLink2Description: https://datasheet.ciiva.com/11808/0900766b80d98b26-11808659.pdf?src-supplier=RSComponents; ComponentLink3URL: https://datasheet.ciiva.com/2514/dcrcwe3-2514289.pdf?src-supplier=Digi-Key; ComponentLink3Description: https://datasheet.ciiva.com/2514/dcrcwe3-2514289.pdf?src-supplier=Digi-Key; ComponentLink4URL: https://datasheet.ciiva.com/2514/dcrcwe3-2514290.pdf?src-supplier=Digi-Key; ComponentLink4Description: https://datasheet.ciiva.com/2514/dcrcwe3-2514290.pdf?src-supplier=Digi-Key; ComponentLink5URL: https://datasheet.ciiva.com/2514/dcrcwe3-2514291.pdf?src-supplier=Digi-Key; ComponentLink5Description: https://datasheet.ciiva.com/2514/dcrcwe3-2514291.pdf?src-supplier=Digi-Key; ComponentLink6URL: https://datasheet.ciiva.com/7672/1697337-7672966.pdf?src-supplier=Element14; ComponentLink6Description: https://datasheet.ciiva.com/7672/1697337-7672966.pdf?src-supplier=Element14; ComponentLink7URL: https://datasheet.ciiva.com/16852/dcrcwe3-16852982.pdf?src-supplier=Avnet+Europe; ComponentLink7Description: https://datasheet.ciiva.com/16852/dcrcwe3-16852982.pdf?src-supplier=Avnet+Europe; ComponentLink8URL: https://datasheet.ciiva.com/5548/dcrcwe3-109170-5548344.pdf?src-supplier=Mouser; ComponentLink8Description: https://datasheet.ciiva.com/5548/dcrcwe3-109170-5548344.pdf?src-supplier=Mouser; ComponentLink9URL: https://datasheet.ciiva.com/26317/fld-crcw-e3-data-en-26317161.pdf?src-supplier=Distrelec; ComponentLink9Description: https://datasheet.ciiva.com/26317/fld-crcw-e3-data-en-26317161.pdf?src-supplier=Distrelec; ComponentLink10URL: https://datasheet.ciiva.com/3258/dcrcwe3-3258332.pdf?src-supplier=Avnet; ComponentLink10Description: https://datasheet.ciiva.com/3258/dcrcwe3-3258332.pdf?src-supplier=Avnet; ComponentLink11URL: https://datasheet.ciiva.com/3258/dcrcwe3-3258333.pdf?src-supplier=Avnet; ComponentLink11Description: https://datasheet.ciiva.com/3258/dcrcwe3-3258333.pdf?src-supplier=Avnet; ComponentLink12URL: https://datasheet.ciiva.com/22676/1847332-22676335.pdf?src-supplier=Element14; ComponentLink12Description: https://datasheet.ciiva.com/22676/1847332-22676335.pdf?src-supplier=Element14
footprint 0805
pins: 1, 2

## R27_5%_1/10W_0805
designator R?, comment 47k
RES 47k OHM 1/10W 1% 0805; Partnumber: RC0805FR-0747KL; NCM: 8533.21.20
footprint 0805
pins: 1, 2

## R33k_1%_1/10W_0805
designator R?, comment 33k
RES 33K OHM 1/10W 1% 0805; Partnumber: RC0805FR-0733KL; NCM: 8533.21.20
footprint 0805
pins: 1, 2

## R330R_1%_1/4W_0805
designator R?, comment 330R
RES 330R OHM 1/4W 1% 0805; Partnumber: RC0805FR-07330RL; NCM: 8533.21.20
footprint 0805
pins: 1, 2

## R510K_1%_1/8W_0805
designator R?, comment 510K  (value not drawn)
RES 510K OHM 1/8W 1% 0805; Manufacturer: Vishay; Manufacturer Part Number: CRCW0805510KFKEA; Resistance: 510kR; Temperature Coefficient: 100ppm/°C; Power Rating: 125mW; Voltage Rating: 150V; Supplier 1: Digi-Key; Supplier Part Number 1: 541-510KCCT-ND; RoHS: Yes; Category: Chip SMD Resistors; Stock 1: 12876; Pricing 1: 1=0,10000, 10=0,06200, 100=0,02540, 1000=0,01142, 2500=0,00991 (USD); Mount: Surface Mount; Case/Package: 0805; Number of Pins: 2; Weight: 0.000194oz; Case Code (Imperial): 0805; Case Code (Metric): 2012; Contact Plating: Tin; Min Operating Temperature: -55°C; Max Operating Temperature: 155°C; Tolerance: 1%; Packaging: Tape and Reel; Composition: Thick Film; Package Quantity: 10; Voltage Rating (DC): 150V; Max Power Dissipation: 125mW; Number of Terminations: 2; Termination: SMD/SMT; Features: Automotive AEC-Q200; Military Standard: Not; Length: 2mm; Height: 0.45mm; Width: 1.25mm; Depth: 1.25mm; Radiation Hardening: No; Lead Free: Lead Free; REACH SVHC: Unknown; ComponentLink1URL: https://datasheet.ciiva.com/11809/0900766b80d98b26-11809600.pdf?src-supplier=RSComponents; ComponentLink1Description: https://datasheet.ciiva.com/11809/0900766b80d98b26-11809600.pdf?src-supplier=RSComponents; ComponentLink2URL: https://datasheet.ciiva.com/7726/dcrcwe3-7726005.pdf?src-supplier=Element14; ComponentLink2Description: https://datasheet.ciiva.com/7726/dcrcwe3-7726005.pdf?src-supplier=Element14; ComponentLink3URL: https://datasheet.ciiva.com/16500/dcrcwe3-16500877.pdf?src-supplier=Future+Electronics; ComponentLink3Description: https://datasheet.ciiva.com/16500/dcrcwe3-16500877.pdf?src-supplier=Future+Electronics; ComponentLink4URL: https://datasheet.ciiva.com/16852/dcrcwe3-16852381.pdf?src-supplier=Avnet+Europe; ComponentLink4Description: https://datasheet.ciiva.com/16852/dcrcwe3-16852381.pdf?src-supplier=Avnet+Europe; ComponentLink5URL: https://datasheet.ciiva.com/2467/dcrcwe3-2467631.pdf?src-supplier=Digi-Key; ComponentLink5Description: https://datasheet.ciiva.com/2467/dcrcwe3-2467631.pdf?src-supplier=Digi-Key; ComponentLink6URL: https://datasheet.ciiva.com/5542/dcrcwe3-109170-5542150.pdf?src-supplier=Mouser; ComponentLink6Description: https://datasheet.ciiva.com/5542/dcrcwe3-109170-5542150.pdf?src-supplier=Mouser; ComponentLink7URL: https://datasheet.ciiva.com/16778/70201119-16778886.pdf?src-supplier=Allied+Electronics; ComponentLink7Description: https://datasheet.ciiva.com/16778/70201119-16778886.pdf?src-supplier=Allied+Electronics; ComponentLink8URL: https://datasheet.ciiva.com/26316/fld-crcw-e3-data-en-26316507.pdf?src-supplier=Distrelec; ComponentLink8Description: https://datasheet.ciiva.com/26316/fld-crcw-e3-data-en-26316507.pdf?src-supplier=Distrelec; ComponentLink9URL: https://datasheet.ciiva.com/2467/dcrcwe3-2467629.pdf?src-supplier=Digi-Key; ComponentLink9Description: https://datasheet.ciiva.com/2467/dcrcwe3-2467629.pdf?src-supplier=Digi-Key; ComponentLink10URL: https://datasheet.ciiva.com/22683/1847332-22683325.pdf?src-supplier=Element14; ComponentLink10Description: https://datasheet.ciiva.com/22683/1847332-22683325.pdf?src-supplier=Element14; ComponentLink11URL: https://datasheet.ciiva.com/2467/dcrcwe3-2467630.pdf?src-supplier=Digi-Key; ComponentLink11Description: https://datasheet.ciiva.com/2467/dcrcwe3-2467630.pdf?src-supplier=Digi-Key; ComponentLink12URL: https://datasheet.ciiva.com/8896/dcrcwe3-8896286.pdf?src-supplier=Avnet; ComponentLink12Description: https://datasheet.ciiva.com/8896/dcrcwe3-8896286.pdf?src-supplier=Avnet
footprint 0805
pins: 1, 2

## REF5030A-Q1
designator U?
Partnumber: REF5030A-Q1
footprint SOIC-8 (SOIC, 8-Leads, Body 4,89x3,90mm, Pitch 1,27mm, IPC Medium Density)
pins: 2 VIN, 3 TEMP, 4 GND, 5 TRIM/NR, 6 Vout

## TEST_POINT_2
designator TP?  (value not drawn)  (no BOM)
Test point
footprint TEST_POINT_2
pins: 1

## TLV341AIDBVR
designator U?
Partnumber: TLV341AIDBVR
footprint SOT-23 6L
pins: 1 +IN, 2 Gnd, 3 -IN, 4 OUT, 5 EN, 6 V+
text: Sh; +; -

## Xtal_32.768kHz_12pF_2_SMD
designator Y?, comment 32.768kHz 12.5pF
32.768kHz ±20ppm Crystal 12.5pF 70 kOhm -40°C ~ 125°C; Partnumber: ECS-.327-12.5-34S-TR; NCM: 8541.60.10
footprint ABS06 0805
pins: 1, 2
text: .

## XTAL_32MHz_SMD_4-SMD
designator Y?, comment 32MHz 10ppm
32MHz ±10ppm Crystal 10pF 60 Ohm -40°C ~ 125°C; Partnumber: ABM8X-102-32.000MHZ-T; NCM: 8541.60.10
footprint XTAL_ABM8X
pins: 1, 2, 3, 4